# Altium footprint library DIP.PcbLib: 22 footprints (part 1 of 2)
Each footprint in its own frame and in the unit in brackets; x right, y up, seen from the top. Pads: shape width x height; smd on the part's side, far side on the other; paste and mask are expansions set on the pad; w line width, h text height; cw(c..) or ccw(c..) is an arc to the next point about the centre after c.
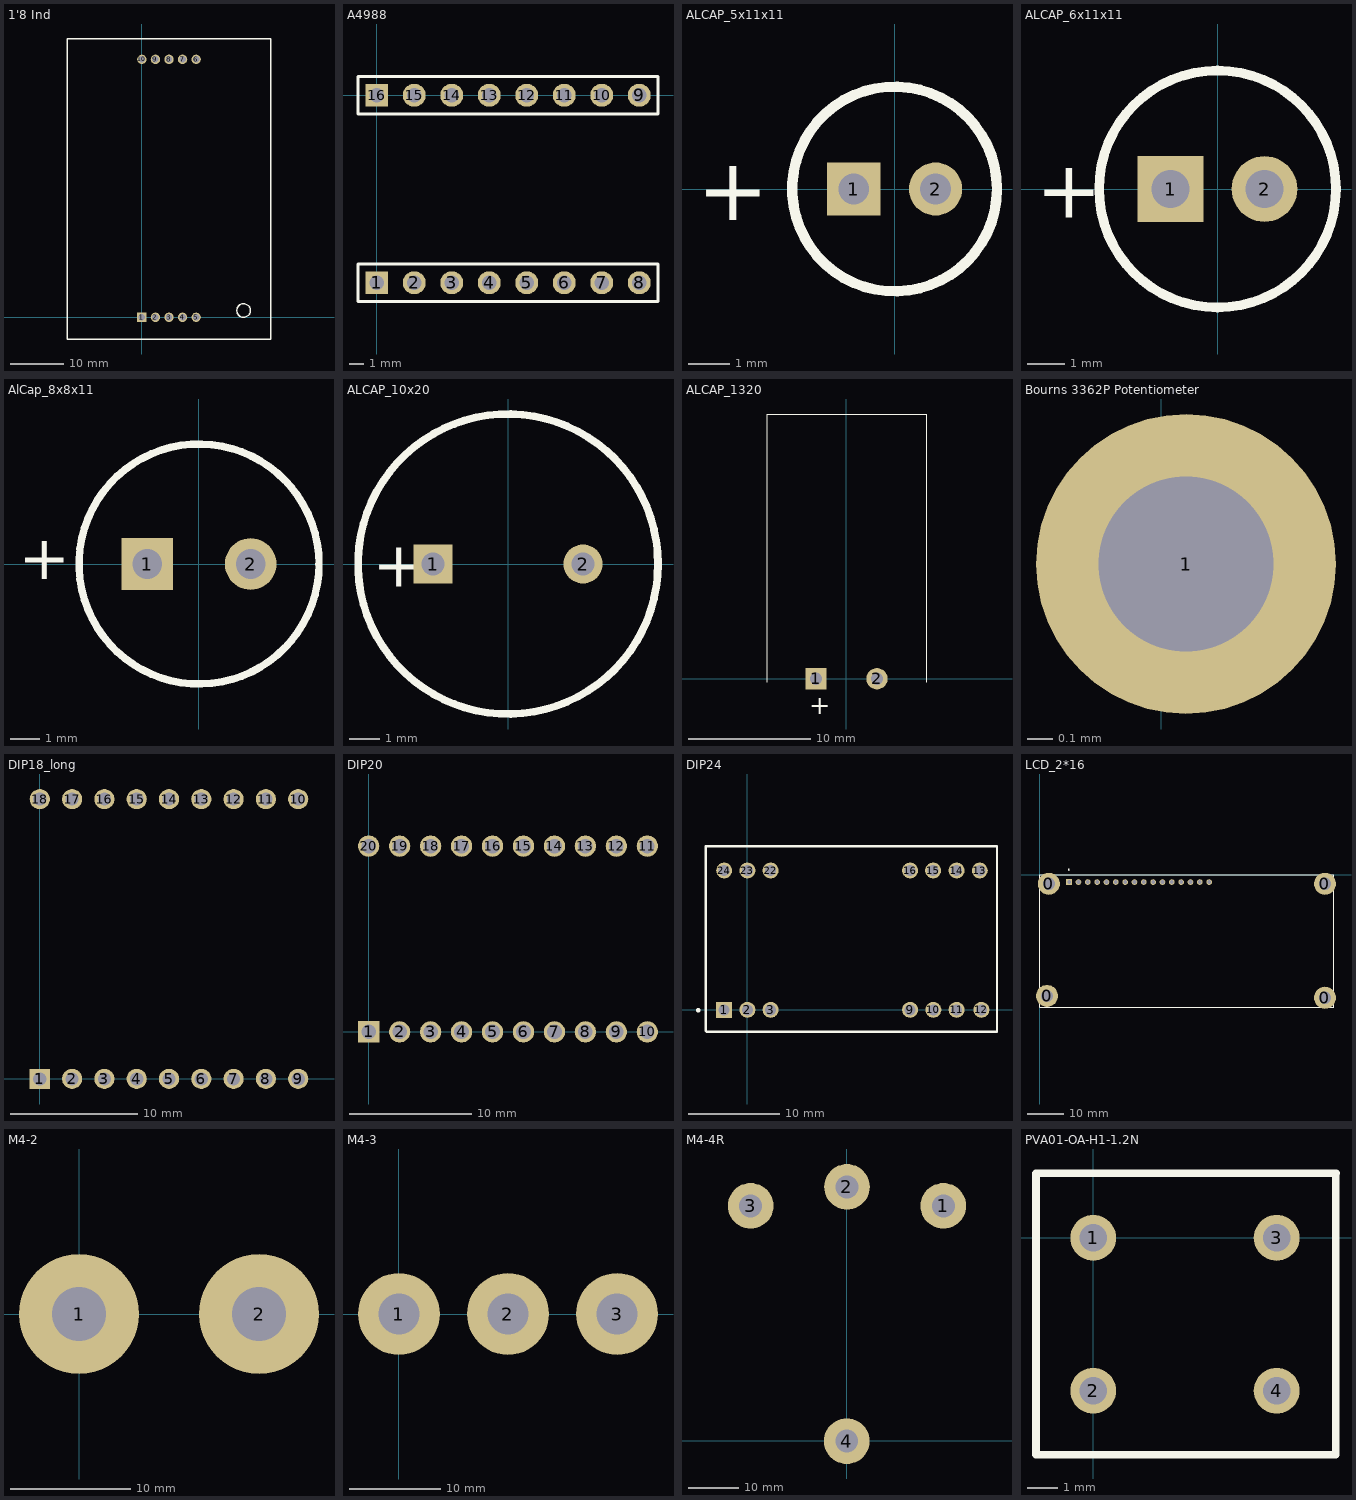
[diagram p0: the footprints below, top view; thin cyan lines are the x and y axes]

## 1'8 Ind [mm]
pads (10):
  rect 1.75x1.75 hole 1.2: 1(0,0)
  round 1.75 hole 1.2: 2(2.54,0) 3(5.08,0) 4(7.62,0) 5(10.16,0) 6(10.16,48.26) 7(7.62,48.26) 8(5.08,48.26) 9(2.54,48.26) 10(0,48.26)
Top Overlay:
  circle w0.254: c19.05,1.27 r1.27
  lines w0.254: -13.97,-4.064 24.13,-4.064 24.13,52.07 -13.97,52.07 -13.97,-4.064
3D body "User Library-SA18-11.step": height 11, standoff -3, extent -13.92,-3.93 24.08,52.07

## A4988 [mm]
pads (16):
  rect 1.55x1.55 hole 1: 1(0,-12.7) 16(0,0)
  round 1.55 hole 1: 2(2.54,-12.7) 3(5.08,-12.7) 4(7.62,-12.7) 5(10.16,-12.7) 6(12.7,-12.7) 7(15.24,-12.7) 8(17.78,-12.7) 9(17.78,0) 10(15.24,0) 11(12.7,0) 12(10.16,0) 13(7.62,0) 14(5.08,0) 15(2.54,0)
Top Overlay:
  lines w0.2: -1.27,-13.97 -1.27,-11.43 19.05,-11.43 19.05,-13.97 -1.27,-13.97 ; -1.27,-1.27 19.05,-1.27 19.05,1.27 -1.27,1.27 -1.27,-1.27
3D body "tmc2100.step": height 21.29, standoff 2.46, extent -1.24,-14.09 19.08,1.15
3D body "User Library-PBS-08.step": height 8.4, standoff -3.2, extent -1.27,-1.27 19.05,1.27
3D body "User Library-PBS-08.step": height 8.4, standoff -3.2, extent -1.27,-13.97 19.05,-11.43

## ALCAP_5x11x11 [mm]
pads (2):
  rect 1.3x1.3 hole 0.75: 1(-1,0)
  round 1.3 hole 0.75: 2(1,0)
Top Overlay:
  circle w0.254: c0,0 r2.5
  text "+" at -4.826,-0.762 h1.52
3D body "CircuitWorks-ELECTROLITIC CAPACITOR RADIAL 5X11.step": height 11, standoff -2.5, extent -2.5,-2.5 2.5,2.5

## ALCAP_6x11x11 [mm]
pads (2):
  rect 1.75x1.75 hole 1: 1(-1.25,0)
  round 1.75 hole 1: 2(1.25,0)
Top Overlay:
  circle w0.254: c0,0 r3.15
  text "+" at -4.826,-0.762 h1.52
3D body "SW3dPS-CAPA-CHIM-RAD-6x11-90°.STEP": height 11.15, standoff -2.85, extent -3,-5.802 3,2.948

## AlCap_8x8x11 [mm]
pads (2):
  rect 1.75x1.75 hole 1: 1(-1.75,0)
  round 1.75 hole 1: 2(1.75,0)
Top Overlay:
  circle w0.254: c0,0 r4.064
  text "+" at -6.096,-0.508 h1.52
3D body "User Library-CapAluRadial_D80H115.STEP": height 13, standoff -3, extent -4.213,-4.237 4.25,4.237

## ALCAP_10x20 [mm]
pads (2):
  rect 1.3x1.3 hole 0.75: 1(-2.5,0)
  round 1.3 hole 0.75: 2(2.5,0)
Top Overlay:
  circle w0.254: c0,0 r5
  text "+" at -4.51,-0.75 h1.52
3D body "User Library-CE_R200_D400_H800.step": height 20.32, standoff -2.9, extent -5.1,-5.07 5.06,5.09

## ALCAP_1320 [mm]
pads (2):
  rect 1.75x1.75 hole 1: 1(-2.5,0)
  round 1.75 hole 1: 2(2.5,0)
Top Overlay:
  lines w0.1: -6.48,-0.29 -6.48,21.7 6.57,21.7 6.57,-0.29
  text "+" at -3.04,-2.89 h1.52
3D body "User Library-Cap electro 12_5x20x5_0mm RA.step": height 13.53, standoff -1.68, extent -6.475,-0.293 6.576,21.696

## Bourns 3362P Potentiometer [mm]
pads (1):
  round 1.2 hole 0.7: 1(0.1,-1.08)
3D body "User Library-Bourns 3362P.step": height 4.7, standoff -5.47, extent -3.3,-3.754 3.3,3.3

## DIP18_long [mm]
pads (18):
  rect 1.59x1.59 hole 1.04: 1(0,0)
  round 1.59 hole 1.04: 2(2.54,0) 3(5.08,0) 4(7.62,0) 5(10.16,0) 6(12.7,0) 7(15.24,0) 8(17.78,0) 9(20.32,0) 10(20.32,22) 11(17.78,22) 12(15.24,22) 13(12.7,22) 14(10.16,22) 15(7.62,22) 16(5.08,22) 17(2.54,22) 18(0,22)
3D body: height 10, standoff 0, extent -7.62,-2.032 28.448,23.876

## DIP20 [mm]
pads (20):
  rect 1.75x1.75 hole 1.2: 1(0,0)
  round 1.75 hole 1.2: 2(2.54,0) 3(5.08,0) 4(7.62,0) 5(10.16,0) 6(12.7,0) 7(15.24,0) 8(17.78,0) 9(20.32,0) 10(22.86,0) 11(22.86,15.24) 12(20.32,15.24) 13(17.78,15.24) 14(15.24,15.24) 15(12.7,15.24) 16(10.16,15.24) 17(7.62,15.24) 18(5.08,15.24) 19(2.54,15.24) 20(0,15.24)
3D body: height 15.7, standoff 0, extent -7.62,-3.048 30.48,18.288

## DIP24 [mm] "DCDC"
pads (14):
  rect 1.75x1.75 hole 1.2: 1(-2.54,0)
  round 1.75 hole 1.2: 2(0,0) 3(2.54,0) 9(17.8,0) 10(20.34,0) 11(22.88,0) 12(25.6,0) 13(25.42,15.24) 14(22.88,15.24) 15(20.32,15.24) 16(17.8,15.24) 22(2.54,15.24) 23(0,15.24) 24(-2.54,15.24)
Top Overlay:
  circle w0.25: c-5.39,-0.048 r0.125
  lines w0.254: -4.572,-2.286 -4.445,-2.413 0,-2.413 25.654,-2.413 27.305,-2.413 27.305,12.446 27.305,17.907 -4.572,17.907 -4.572,-2.286
3D body "User Library-AM8T-IZ.step": height 10.2, standoff -3.8, extent -4.597,-2.403 27.203,17.897

## LCD_2*16 [mm] "WH1602B-NYG-CT"
pads (20):
  round 6 hole 3.3: 0(2,-33) 0(2.5,-2.5) 0(77.6,-33.5) 0(77.6,-2.5)
  rect 1.55x1.55 hole 1: 1(8.001,-2.032)
  round 1.55 hole 1: 2(10.541,-2.032) 3(13.081,-2.032) 4(15.621,-2.032) 5(18.161,-2.032) 6(20.701,-2.032) 7(23.241,-2.032) 8(25.781,-2.032) 9(28.321,-2.032) 10(30.861,-2.032) 11(33.401,-2.032) 12(35.941,-2.032) 13(38.481,-2.032) 14(41.021,-2.032) 15(43.561,-2.032) 16(46.101,-2.032)
Top Overlay:
  circle w0.25: c7.945,1.349 r0.125
  lines w0.254: 0,0 0,-36.068 80.01,-36.068 80.01,0 0.127,0
3D body "User Library-PLS-1.step": height 8.44, standoff -3, extent 44.831,-3.302 47.371,-0.762
3D body "User Library-PLS-1.step": height 8.44, standoff -3, extent 42.291,-3.302 44.831,-0.762
3D body "User Library-PLS-1.step": height 8.44, standoff -3, extent 39.751,-3.302 42.291,-0.762
3D body "User Library-PLS-1.step": height 8.44, standoff -3, extent 37.211,-3.302 39.751,-0.762
3D body "User Library-PLS-1.step": height 8.44, standoff -3, extent 34.671,-3.302 37.211,-0.762
3D body "User Library-PLS-1.step": height 8.44, standoff -3, extent 32.131,-3.302 34.671,-0.762
3D body "User Library-PLS-1.step": height 8.44, standoff -3, extent 29.591,-3.302 32.131,-0.762
3D body "User Library-PLS-1.step": height 8.44, standoff -3, extent 27.051,-3.302 29.591,-0.762
3D body "User Library-PLS-1.step": height 8.44, standoff -3, extent 24.511,-3.302 27.051,-0.762
3D body "User Library-PLS-1.step": height 8.44, standoff -3, extent 21.971,-3.302 24.511,-0.762
3D body "User Library-PLS-1.step": height 8.44, standoff -3, extent 19.431,-3.302 21.971,-0.762
3D body "User Library-PLS-1.step": height 8.44, standoff -3, extent 16.891,-3.302 19.431,-0.762
3D body "User Library-PLS-1.step": height 8.44, standoff -3, extent 14.351,-3.302 16.891,-0.762
3D body "User Library-PLS-1.step": height 8.44, standoff -3, extent 11.811,-3.302 14.351,-0.762
3D body "User Library-PLS-1.step": height 8.44, standoff -3, extent 9.271,-3.302 11.811,-0.762
3D body "User Library-PLS-1.step": height 8.44, standoff -3, extent 6.731,-3.302 9.271,-0.762

## M4-2 [mm]
pads (2):
  round 10 hole 4.5: 1(0,0) 2(15,0)

## M4-3 [mm]
pads (3):
  round 9 hole 4.5: 1(0,0) 2(12,0) 3(24,0)

## M4-4R [mm]
pads (4):
  round 9 hole 4.5: 1(18.965,46.263) 2(0,50) 3(-18.965,46.263) 4(-0.04,-0.04)

## PVA01-OA-H1-1.2N [mm]
pads (4):
  round 1.5 hole 0.9: 1(0,0) 2(0,-5) 3(6,0) 4(6,-5)
Top Overlay:
  lines w0.254: -1.87,-7.08 -1.87,2.1 -1.86,2.11 7.94,2.11 7.93,2.1 7.93,-7.09 -1.86,-7.09
3D body "Кнопка-PVA1.stp": height 18.7, standoff -3.5, extent -1.86,-7.09 7.94,2.11